# EAGLE library part MAX6373KA+T (library NASA_LIB)
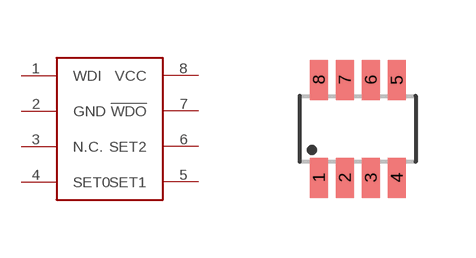
[diagram p43: symbol with the pads of SOT23-8L; footprint SOT23-8L]

Designator prefix -

## MAX6373KA+T  [SOT23-8L]
1  WDI
2  GND
3  N.C.
4  SET0
5  SET1
6  SET2
7  !WDO
8  VCC

## Footprint SOT23-8L (pad centres in mm)
smd 0.45 x 1: 1 -0.975,-1.225; 2 -0.325,-1.225; 3 0.325,-1.225; 4 0.975,-1.225; 5 0.975,1.225; 6 0.325,1.225; 7 -0.325,1.225; 8 -0.975,1.225